# Altium schematic symbol library MC32829.SchLib: 1 symbol
Pins are listed as number, name and electrical type; pins without a type are passive.

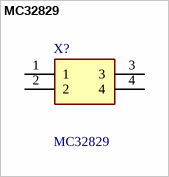
[diagram p0: symbol MC32829]

## MC32829
designator X?
TACTILE SWITCH, SPST-NO, 0.05A, 12V, THD; Manufacturer_Name: Multicomp Pro; Geometry.Height: 6mm; Farnell Part Number: *; Farnell Price/Stock: *; Manufacturer_Part_Number: MC32829; Datasheet Link: *
footprint MC32829
pins: 1, 2, 3, 4